# Altium schematic symbol library FERRITE-SM-0603.Schlib: 1 symbol
Pins are listed as number, name and electrical type; pins without a type are passive.

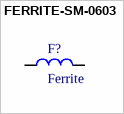
[diagram p0: symbol FERRITE-SM-0603]

## FERRITE-SM-0603
designator F?, comment Ferrite
FERRITE SM 0603
pins: 1, 2